# Altium footprint library unicore.PcbLib: 1 footprints
Each footprint in its own frame and in the unit in brackets; x right, y up, seen from the top. Pads: shape width x height; smd on the part's side, far side on the other; paste and mask are expansions set on the pad; w line width, h text height; cw(c..) or ccw(c..) is an arc to the next point about the centre after c.
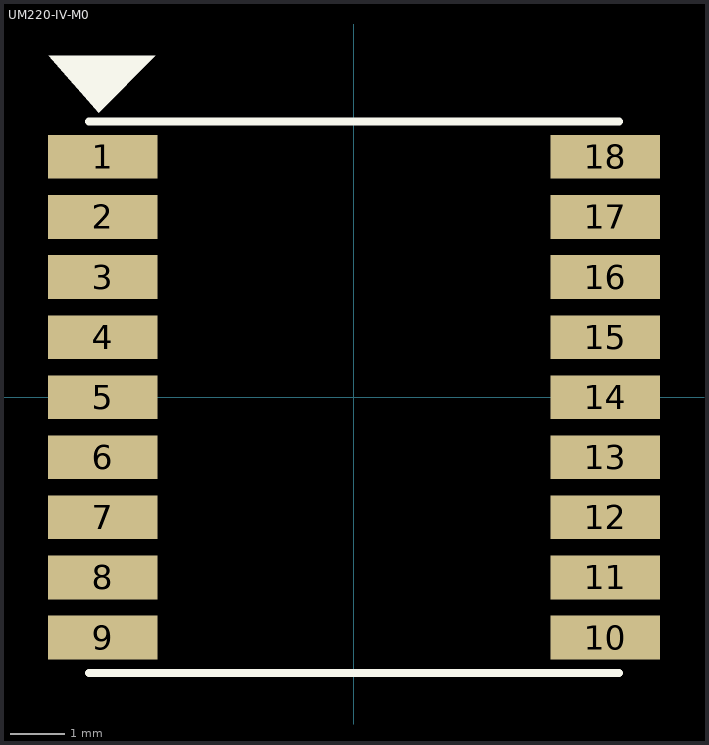
[diagram p0: the footprint, top view; thin cyan lines are the x and y axes]

## UM220-IV-M0 [mm]
height 2.1
pads (18):
  rect 2x0.8 smd: 1(-4.6,4.4) 2(-4.6,3.3) 3(-4.6,2.2) 4(-4.6,1.1) 5(-4.6,0) 6(-4.6,-1.1) 7(-4.6,-2.2) 8(-4.6,-3.3) 9(-4.6,-4.4) 10(4.6,-4.4) 11(4.6,-3.3) 12(4.6,-2.2) 13(4.6,-1.1) 14(4.6,0) 15(4.6,1.1) 16(4.6,2.2) 17(4.6,3.3) 18(4.6,4.4)
Top Overlay:
  region: -5.585,6.25 -3.635,6.25 -4.675,5.21
  lines w0.15: -4.85,-5.05 4.85,-5.05 ; -4.85,5.05 4.85,5.05
3D body "UM220-IV-M0.stp": height 2, standoff 0, extent -4.85,-5.05 4.85,5.05